# EAGLE library part HEADER_23P (library Public)
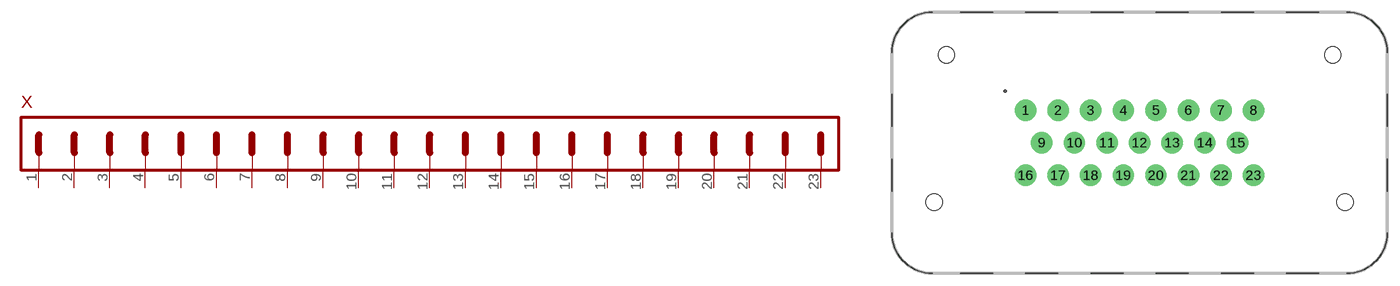
[diagram p237: symbol with the pads of AMPSEAL_776228-X; footprint AMPSEAL_776228-X]

Designator prefix X

## HEADER_23P(AMPSEAL-776228-X)  [AMPSEAL_776228-X]
1  PIN1
2  PIN2
3  PIN3
4  PIN4
5  PIN5
6  PIN6
7  PIN7
8  PIN8
9  PIN9
10  PIN10
11  PIN11
12  PIN12
13  PIN13
14  PIN14
15  PIN15
16  PIN16
17  PIN17
18  PIN18
19  PIN19
20  PIN20
21  PIN21
22  PIN22
23  PIN23

## Footprint AMPSEAL_776228-X (pad centres in mm)
drill 1.75: 1 -14,4; 2 -10,4; 3 -6,4; 4 -2,4; 5 2,4; 6 6,4; 7 10,4; 8 14,4; 9 -12,0; 10 -8,0; 11 -4,0; 12 0,0; 13 4,0; 14 8,0; 15 12,0; 16 -14,-4; 17 -10,-4; 18 -6,-4; 19 -2,-4; 20 2,-4; 21 6,-4; 22 10,-4; 23 14,-4
hole 2 at -23.7,10.8
hole 2 at 23.7,10.8
hole 2 at -25.2,-7.3
hole 2 at 25.2,-7.3